# EAGLE library part LMR16006 (library dc-dc)
PWM DC/DC buck (step-down) regulator. With a wide input range of 4 V to 60 V
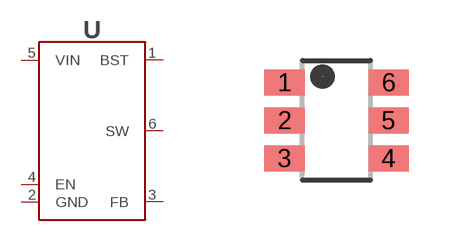
[diagram p4: symbol with the pads of SOT23-6; footprint SOT23-6]

Designator prefix -

## LMR16006X (FREQ: 0.7 MHz; MANF: Texas Instruments; MANF#: LMR16006XDDCR), LMR16006Y (FREQ: 2.1 MHz; MANF: Texas Instruments; MANF#: LMR16006YDDCR)  [SOT23-6]
1  BST
2  GND
3  FB
4  EN
5  VIN
6  SW

## Footprint SOT23-6 (pad centres in mm)
smd 1 x 0.65: 1 -1.3,0.95; 2 -1.3,0; 3 -1.3,-0.95; 4 1.3,-0.95; 5 1.3,0; 6 1.3,0.95